# Altium schematic symbol library CONNECTOR_JUMPER.SchLib: 22 symbols
Pins are listed as number, name and electrical type; pins without a type are passive.

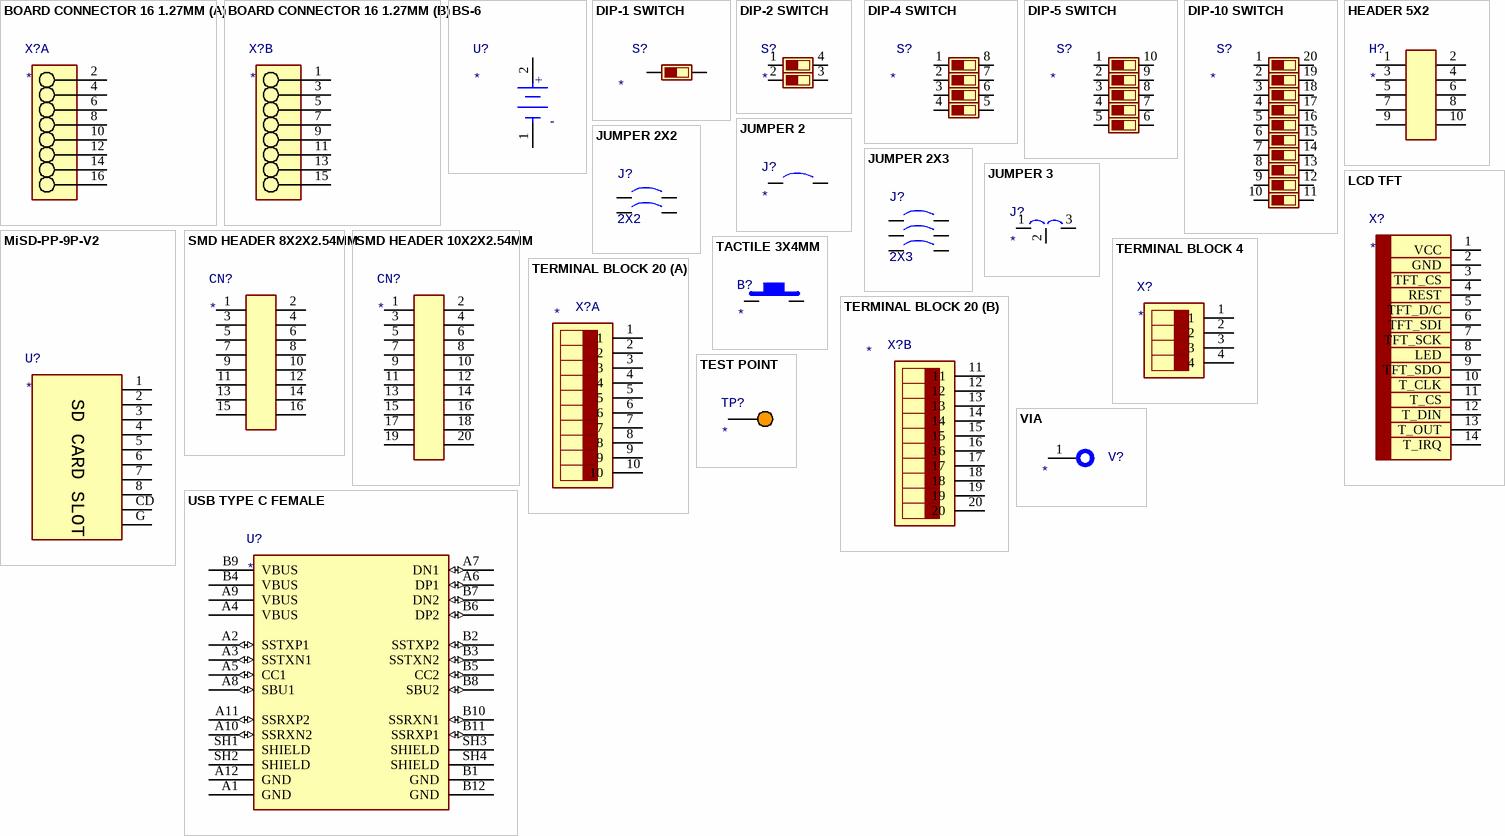
[diagram p0: symbols BOARD CONNECTOR 16 1.27MM to VIA]

## BOARD CONNECTOR 16 1.27MM
designator X?
part A pins: 2, 4, 6, 8, 10, 12, 14, 16
part B pins: 1, 3, 5, 7, 9, 11, 13, 15

## BS-6
designator U?
pins: 1 C, 2 A
text: +; -

## DIP-1 SWITCH
designator S?
pins: 1, 2

## DIP-2 SWITCH
designator S?
pins: 1, 2, 3, 4

## DIP-4 SWITCH
designator S?
pins: 1, 2, 3, 4, 5, 6, 7, 8

## DIP-5 SWITCH
designator S?
pins: 1, 2, 3, 4, 5, 6, 7, 8, 9, 10

## DIP-10 SWITCH
designator S?
pins: 1, 2, 3, 4, 5, 6, 7, 8, 9, 10, 11, 12, 13, 14, 15, 16, 17, 18, 19, 20

## HEADER 5X2
designator H?
pins: 1, 2, 3, 4, 5, 6, 7, 8, 9, 10

## JUMPER 2
designator J?
pins: 1, 2

## JUMPER 2X2
designator J?, comment 2X2
pins: 1, 2, 3, 4

## JUMPER 2X3
designator J?, comment 2X3
pins: 1, 2, 3, 4, 5, 6

## JUMPER 3
designator J?
pins: 1, 2, 3

## LCD TFT
designator X?
pins: 1 VCC, 2 GND, 3 TFT_CS, 4 REST, 5 TFT_D/C, 6 TFT_SDI, 7 TFT_SCK, 8 LED, 9 TFT_SDO, 10 T_CLK, 11 T_CS, 12 T_DIN, 13 T_OUT, 14 T_IRQ

## MiSD-PP-9P-V2
designator U?
pins: 1, 2, 3, 4, 5, 6, 7, 8, CD, G
text: SD CARD SLOT

## SMD HEADER 8X2X2.54MM
designator CN?
pins: 1, 2, 3, 4, 5, 6, 7, 8, 9, 10, 11, 12, 13, 14, 15, 16

## SMD HEADER 10X2X2.54MM
designator CN?
pins: 1, 2, 3, 4, 5, 6, 7, 8, 9, 10, 11, 12, 13, 14, 15, 16, 17, 18, 19, 20

## TACTILE 3X4MM
designator B?
pins: 1, 2

## TERMINAL BLOCK 4
designator X?
pins: 1, 2, 3, 4

## TERMINAL BLOCK 20
designator X?
part A pins: 1, 2, 3, 4, 5, 6, 7, 8, 9, 10
part B pins: 11, 12, 13, 14, 15, 16, 17, 18, 19, 20

## TEST POINT
designator TP?
pins: 1

## USB TYPE C FEMALE
designator U?
pins: A1 GND (power), A2 SSTXP1 (io), A3 SSTXN1 (io), A4 VBUS (power), A5 CC1 (io), A6 DP1 (io), A7 DN1 (io), A8 SBU1 (io), A9 VBUS (power), A10 SSRXN2 (io), A11 SSRXP2 (io), A12 GND (power), B1 GND (power), B2 SSTXP2 (io), B3 SSTXN2 (io), B4 VBUS (power), B5 CC2 (io), B6 DP2 (io), B7 DN2 (io), B8 SBU2 (io), B9 VBUS (power), B10 SSRXN1 (io), B11 SSRXP1 (io), B12 GND (power), SH1 SHIELD (power), SH2 SHIELD (power), SH3 SHIELD (power), SH4 SHIELD (power)

## VIA
designator V?
pins: 1